# Altium schematic symbol library InfoDisplayLibrary.SchLib: 11 symbols
Pins are listed as number, name and electrical type; pins without a type are passive.

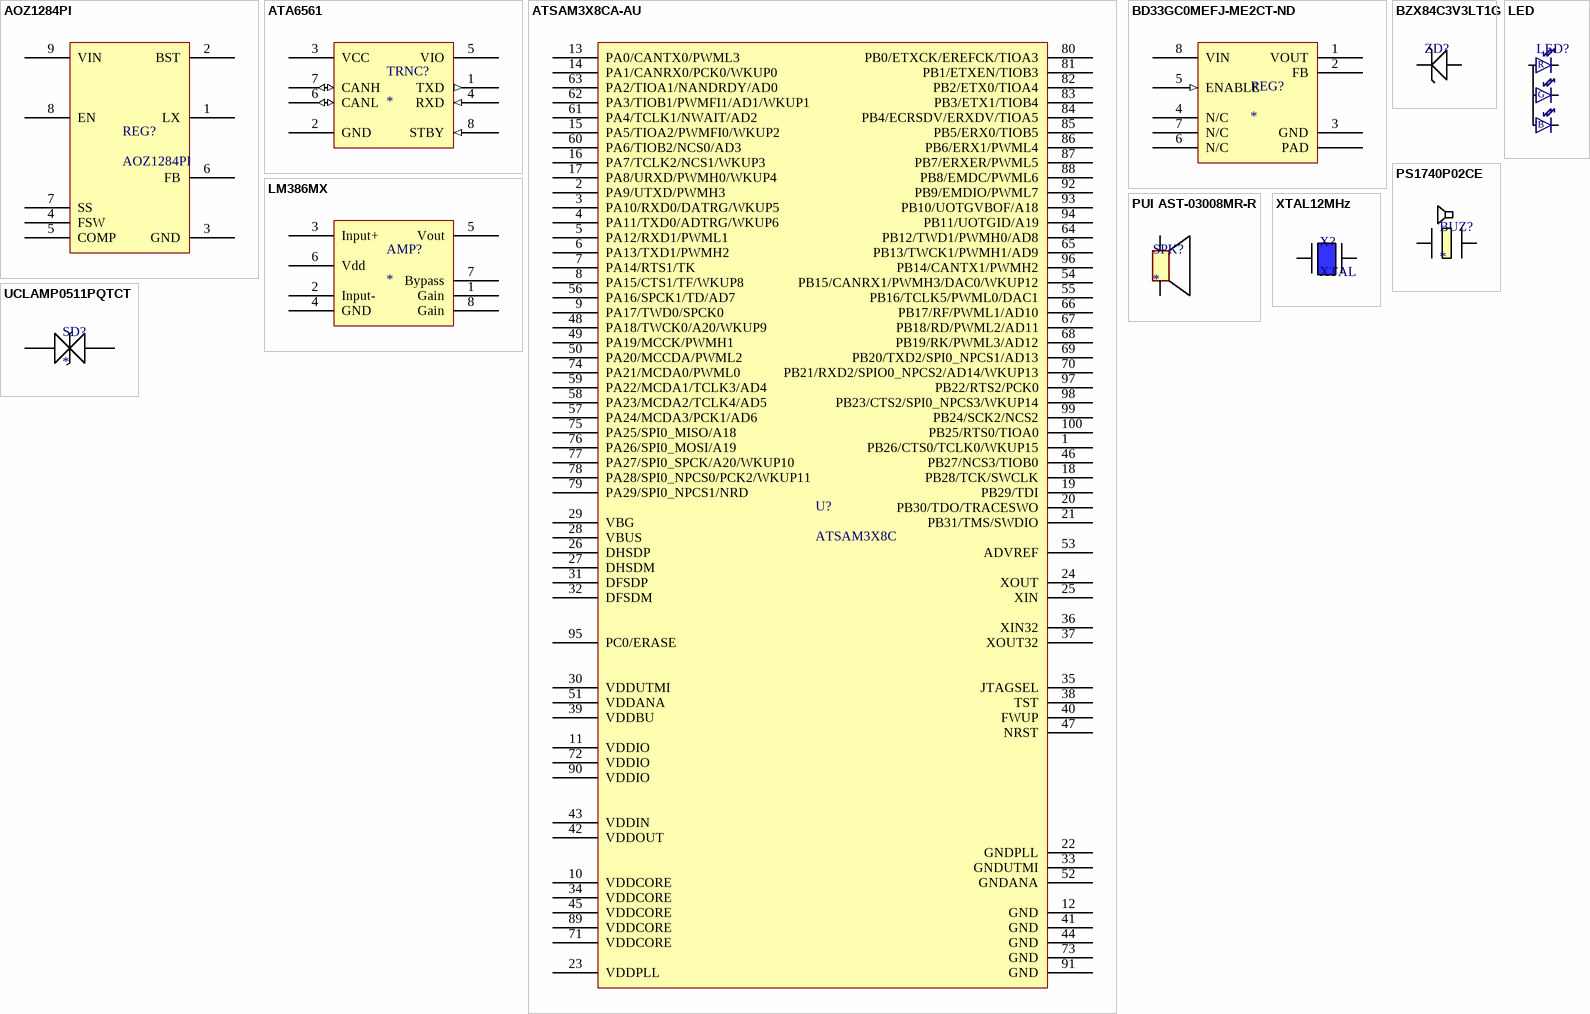
[diagram p0: symbols AOZ1284PI to XTAL12MHz]

## AOZ1284PI
designator REG?
A&M 4A Buck Regulator, 0.8 to 30V; Manufacturer PartNo: AOZ1284PI; Digikey: 785-1689-1-ND
footprint SOIC127P600X170_HS-9N (SOIC, 8-Leads, Body 4.90x3.90mm, Pitch 1.27mm, Thermal Pad 3.60.2x2.00.2mm, IPC Medium Density)
pins: 1 LX "Inductor Output", 2 BST, 3 GND (power), 4 FSW, 5 COMP, 6 FB, 7 SS, 8 EN, 9 VIN

## ATA6561
designator TRNC?
ATA6561; Digikey: ATA6561
footprint SOP127P600X165-8M (SOP, 8-Leads, Body 4.90x3.90mm, Pitch 1.27mm, IPC Low Density)
pins: 1 TXD (out), 2 GND (power), 3 VCC (power), 4 RXD (in), 5 VIO, 6 CANL (io), 7 CANH (io), 8 STBY (in)

## ATSAM3X8CA-AU
designator U?, comment ATSAM3X8C
Atmel SAM Microcontroller, 100 Pin
footprint 100-LQFP (Atmel SAM 3X8CA-AU)
pins: 1 PB26/CTS0/TCLK0/WKUP15, 2 PA9/UTXD/PWMH3, 3 PA10/RXD0/DATRG/WKUP5, 4 PA11/TXD0/ADTRG/WKUP6, 5 PA12/RXD1/PWML1, 6 PA13/TXD1/PWMH2, 7 PA14/RTS1/TK, 8 PA15/CTS1/TF/WKUP8, 9 PA17/TWD0/SPCK0, 10 VDDCORE (power), 11 VDDIO (power), 12 GND (power), 13 PA0/CANTX0/PWML3, 14 PA1/CANRX0/PCK0/WKUP0, 15 PA5/TIOA2/PWMFI0/WKUP2, 16 PA7/TCLK2/NCS1/WKUP3, 17 PA8/URXD/PWMH0/WKUP4, 18 PB28/TCK/SWCLK, 19 PB29/TDI, 20 PB30/TDO/TRACESWO, 21 PB31/TMS/SWDIO, 22 GNDPLL (power), 23 VDDPLL (power), 24 XOUT, 25 XIN, 26 DHSDP, 27 DHSDM, 28 VBUS, 29 VBG, 30 VDDUTMI (power), 31 DFSDP, 32 DFSDM, 33 GNDUTMI, 34 VDDCORE (power), 35 JTAGSEL, 36 XIN32, 37 XOUT32, 38 TST, 39 VDDBU (power), 40 FWUP, 41 GND (power), 42 VDDOUT (power), 43 VDDIN (power), 44 GND (power), 45 VDDCORE (power), 46 PB27/NCS3/TIOB0, 47 NRST, 48 PA18/TWCK0/A20/WKUP9, 49 PA19/MCCK/PWMH1, 50 PA20/MCCDA/PWML2, 51 VDDANA (power), 52 GNDANA (power), 53 ADVREF, 54 PB15/CANRX1/PWMH3/DAC0/WKUP12, 55 PB16/TCLK5/PWML0/DAC1, 56 PA16/SPCK1/TD/AD7, 57 PA24/MCDA3/PCK1/AD6, 58 PA23/MCDA2/TCLK4/AD5, 59 PA22/MCDA1/TCLK3/AD4, 60 PA6/TIOB2/NCS0/AD3, 61 PA4/TCLK1/NWAIT/AD2, 62 PA3/TIOB1/PWMFI1/AD1/WKUP1, 63 PA2/TIOA1/NANDRDY/AD0, 64 PB12/TWD1/PWMH0/AD8, 65 PB13/TWCK1/PWMH1/AD9, 66 PB17/RF/PWML1/AD10, 67 PB18/RD/PWML2/AD11, 68 PB19/RK/PWML3/AD12, 69 PB20/TXD2/SPI0_NPCS1/AD13, 70 PB21/RXD2/SPIO0_NPCS2/AD14/WKUP13, 71 VDDCORE (power), 72 VDDIO, 73 GND, 74 PA21/MCDA0/PWML0, 75 PA25/SPI0_MISO/A18, 76 PA26/SPI0_MOSI/A19, 77 PA27/SPI0_SPCK/A20/WKUP10, 78 PA28/SPI0_NPCS0/PCK2/WKUP11, 79 PA29/SPI0_NPCS1/NRD, 80 PB0/ETXCK/EREFCK/TIOA3, 81 PB1/ETXEN/TIOB3, 82 PB2/ETX0/TIOA4, 83 PB3/ETX1/TIOB4, 84 PB4/ECRSDV/ERXDV/TIOA5, 85 PB5/ERX0/TIOB5, 86 PB6/ERX1/PWML4, 87 PB7/ERXER/PWML5, 88 PB8/EMDC/PWML6, 89 VDDCORE (power), 90 VDDIO (power), 91 GND (power), 92 PB9/EMDIO/PWML7, 93 PB10/UOTGVBOF/A18, 94 PB11/UOTGID/A19, 95 PC0/ERASE, 96 PB14/CANTX1/PWMH2, 97 PB22/RTS2/PCK0, 98 PB23/CTS2/SPI0_NPCS3/WKUP14, 99 PB24/SCK2/NCS2, 100 PB25/RTS0/TIOA0

## BD33GC0MEFJ-ME2CT-ND
designator REG?
Rohm 3.3V LDO, 1A
footprint TSOP127P600X100_HS-9M (TSOP, 8-Leads, Body 4.90x3.90mm, Pitch 1.27mm, Thermal Pad 3.20.2x2.40.2mm, IPC Low Density)
pins: 1 VOUT (power), 2 FB (power), 3 GND (power), 4 N/C, 5 ENABLE (in), 6 N/C (hiz), 7 N/C (hiz), 8 VIN (power), 9 PAD

## BZX84C3V3LT1G
designator ZD?  (value not drawn)
OnSemi 3.3V Zener, 250 mW
footprint SOT95P237X111-3N (SOT23, 3-Leads, Body 2.92x2.37mm, Pitch 0.95mm, IPC Medium Density)
pins: 1, 3

## LED
designator LED?  (value not drawn)
Cree RGB LED
footprint CLVBA-FKA-CAEDH8BBB7A363CT-ND (3 Colour LED)
pins: 1 RED, 2 COMMON, 3 BLUE, 4 GREEN
text: R; G; B

## LM386MX
designator AMP?
TI Audio Amplifier, 0.350W, 5-12V
footprint SOIC127P600X173-8N (SOIC, 8-Leads, Body 4.90x3.90mm, Pitch 1.27mm, IPC Medium Density)
pins: 1 Gain, 2 Input-, 3 Input+, 4 GND (power), 5 Vout, 6 Vdd (power), 7 Bypass, 8 Gain

## PS1740P02CE
designator BUZ?
pins: 1, 2

## PUI AST-03008MR-R
designator SPK?
PUI 0.15W Speaker, 8 Ohm
footprint AST-03008MR-R (PUI 0.15W Speaker)
pins: 1, 2

## UCLAMP0511PQTCT
designator SD?
footprint CAPC1005M (Chip Capacitor, Body 1.0x0.5mm, IPC Low Density)
pins: 1, 2

## XTAL12MHz
designator X?, comment XTAL
footprint XTAL
pins: 1, 2